# EAGLE library part LM2665 (library dubec)
LM2665 - Switched Capacitor Voltage Converter
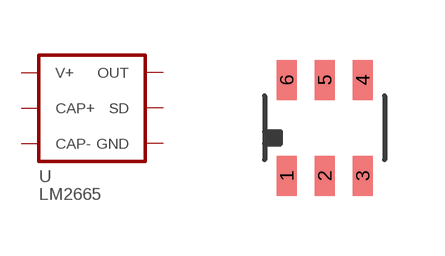
[diagram p29: symbol with the pads of SOT-23-6; footprint SOT-23-6]

Designator prefix -

## LM2665M6 (DIGIKEY_PART_#: LM2665M6/NOPBCT-ND; EURO: 7.44/10; FREQ: 80kHz; I_OUT: 40mA; MANUFACTURER: Texas Instruments; MFG_PART_#: LM2665M6/NOPB; TEMP: -40°C ~ 85°C (TJ); V_OUT: 2Vin)  [SOT-23-6]
1  V+  pas
2  GND  pas
3  CAP-  pas
4  SD  pas
5  OUT  pas
6  CAP+  pas

## Footprint SOT-23-6 (pad centres in mm)
smd 0.5 x 1: 1 -0.95,-1.2; 2 0,-1.2; 3 0.95,-1.2; 4 0.95,1.2; 5 0,1.2; 6 -0.95,1.2